# Altium footprint library 1760520000.PcbLib: 1 footprints
Each footprint in its own frame and in the unit in brackets; x right, y up, seen from the top. Pads: shape width x height; smd on the part's side, far side on the other; paste and mask are expansions set on the pad; w line width, h text height; cw(c..) or ccw(c..) is an arc to the next point about the centre after c.
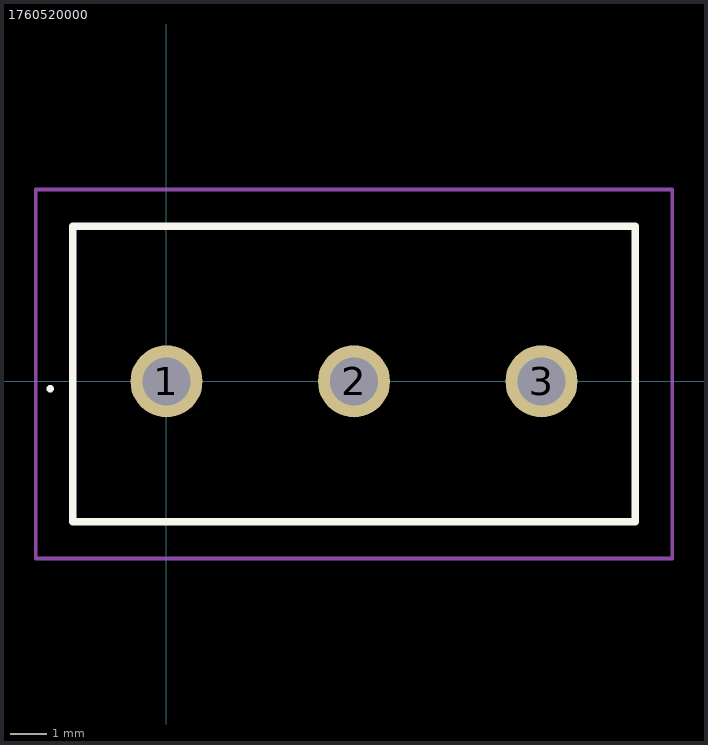
[diagram p0: the footprint, top view; thin cyan lines are the x and y axes]

## 1760520000 [mm]
pads (3):
  round 1.95 hole 1.3: 1(0,0) 2(5.08,0) 3(10.16,0)
Top Overlay:
  lines w0.1: -3.2,-0.2 -3.2,-0.2 ; -3.2,-0.2 ccw(c-3.15,-0.2) -3.1,-0.2 ; -3.2,-0.2 cw(c-3.15,-0.2) -3.1,-0.2 ; -3.1,-0.2 -3.1,-0.2
  lines w0.2: -2.54,-3.8 12.7,-3.8 12.7,4.2 -2.54,4.2 -2.54,-3.8
Mechanical 15:
  lines w0.1: -2.54,-3.8 12.7,-3.8 12.7,4.2 -2.54,4.2 -2.54,-3.8
Mechanical 20:
  lines w0.1: -3.54,-4.8 13.7,-4.8 13.7,5.2 -3.54,5.2 -3.54,-4.8
3D body "1760520000.stp": height 5.8, standoff -4.65, extent -10,-3.376 10,3.376